# EAGLE library part ESP-WROOM-32UE-N4 (library edrtech_lib)
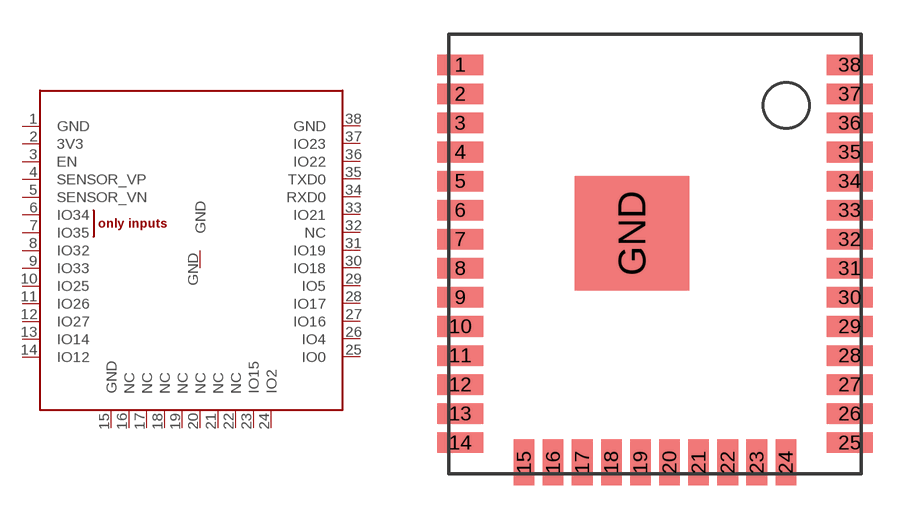
[diagram p34: symbol with the pads of ESP-WROOM-32UE-N4; footprint ESP-WROOM-32UE-N4]

Designator prefix U

## ESP-WROOM-32UE-N4  [ESP-WROOM-32UE-N4]
1  GND
2  3V3
3  EN
4  SENSOR_VP  in
5  SENSOR_VN  in
6  IO34  in
7  IO35  in
8  IO32
9  IO33
10  IO25
11  IO26
12  IO27
13  IO14
14  IO12
15  GND
16  NC
17  NC
18  NC
19  NC
20  NC
21  NC
22  NC
23  IO15
24  IO2
25  IO0
26  IO4
27  IO16
28  IO17
29  IO5
30  IO18
31  IO19
32  NC
33  IO21
34  RXD0
35  TXD0
36  IO22
37  IO23
38  GND
GND  GND

## Footprint ESP-WROOM-32UE-N4 (pad centres in mm)
smd 2 x 0.9: 1 -8.5,8.265; 2 -8.5,6.995; 3 -8.5,5.725; 4 -8.5,4.455; 5 -8.5,3.185; 6 -8.5,1.915; 7 -8.5,0.645; 8 -8.5,-0.625; 9 -8.5,-1.895; 10 -8.5,-3.165; 11 -8.5,-4.435; 12 -8.5,-5.705; 13 -8.5,-6.975; 14 -8.5,-8.245; 25 8.5,-8.245; 26 8.5,-6.975; 27 8.5,-5.705; 28 8.5,-4.435; 29 8.5,-3.165; 30 8.5,-1.895; 31 8.5,-0.625; 32 8.5,0.645; 33 8.5,1.915; 34 8.5,3.185; 35 8.5,4.455; 36 8.5,5.725; 37 8.5,6.995; 38 8.5,8.265
smd 0.9 x 2: 15 -5.715,-9.1; 16 -4.445,-9.1; 17 -3.175,-9.1; 18 -1.905,-9.1; 19 -0.635,-9.1; 20 0.635,-9.1; 21 1.905,-9.1; 22 3.175,-9.1; 23 4.445,-9.1; 24 5.715,-9.1
smd 5 x 5: GND -1,0.91